# EAGLE library part TPS63070 (library SparkFun-IC-Power)
TPS630702 Buck-Boost Switching Regulator Vout: 2.5-9V Vin: 2-16V Iout Max: 2A Datasheet <https://www.ti.com/lit/ds/symlink/tps63070.pdf?HQS>
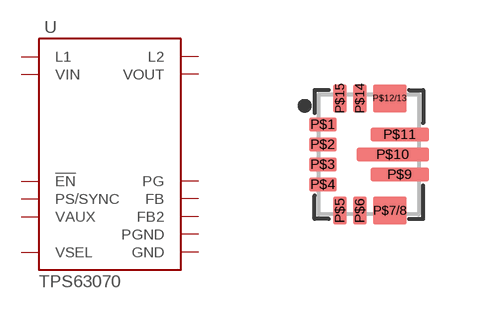
[diagram p25: symbol with the pads of VQFN-15-HR(3X2.5); footprint VQFN-15-HR(3X2.5)]

Designator prefix U

## TPS63070 (PROD_ID: IC-14258; VALUE: TPS63070)  [VQFN-15-HR(3X2.5)]
P$1  PS/SYNC
P$2  PG
P$3  VAUX
P$4  GND
P$5  FB
P$6  FB2
P$7/8  VOUT
P$9  L2
P$10  PGND
P$11  L1
P$12/13  VIN
P$14  !EN
P$15  VSEL

## Footprint VQFN-15-HR(3X2.5) (pad centres in mm)
smd 0.7 x 0.35: P$1 -1.15,0.75; P$2 -1.15,0.25; P$3 -1.15,-0.25; P$4 -1.15,-0.75
smd 0.35 x 0.7: P$5 -0.725,-1.4; P$6 -0.225,-1.4; P$14 -0.225,1.4; P$15 -0.725,1.4
smd 0.85 x 0.7: P$7/8 0.525,-1.4; P$12/13 0.525,1.4
smd 1.45 x 0.35: P$9 0.775,-0.5; P$11 0.775,0.5
smd 1.8 x 0.35: P$10 0.6,0